# Altium schematic symbol library Switch_TE_Connectivity_1825057-1_eec.SchLib: 1 symbol
Pins are listed as number, name and electrical type; pins without a type are passive.

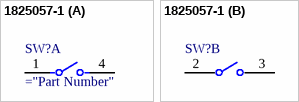
[diagram p0: symbol 1825057-1]

## 1825057-1
designator SW?  (value not drawn)
part A pins: 1, 4
part B pins: 2, 3